# EAGLE library part DEBUGGER (library third_eye)
PIN HEADER
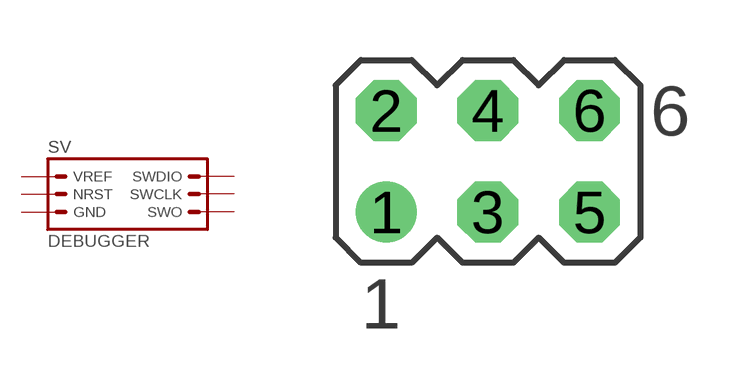
[diagram p3: symbol with the pads of MA03-2; footprint MA03-2]

Designator prefix SV

## DEBUGGER (OC_FARNELL: unknown; OC_NEWARK: unknown)  [MA03-2]
1  SWO  pas
2  GND  pas
3  SWCLK  pas
4  NRST  pas
5  SWDIO  pas
6  VREF  pas

## Footprint MA03-2 (pad centres in mm)
PIN HEADER
drill 1.016: 1 -2.54,-1.27
drill 1.016 octagon: 2 -2.54,1.27; 3 0,-1.27; 4 0,1.27; 5 2.54,-1.27; 6 2.54,1.27